# Altium schematic symbol library SG_SCH_Transistors.SchLib: 45 symbols
Pins are listed as number, name and electrical type; pins without a type are passive.

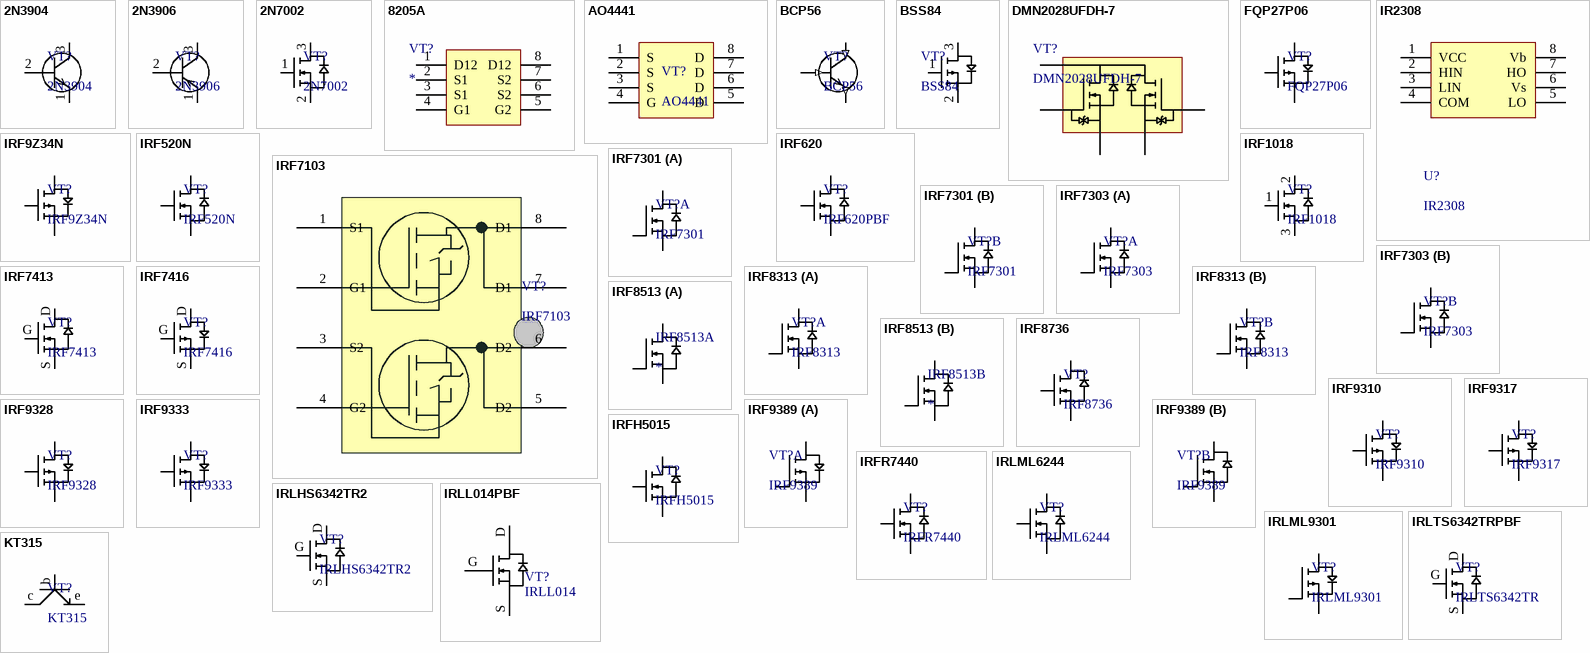
[diagram p0: symbols 2N3904 to KT315]

## 2N3904
designator VT?
NPN transistor 40-60V 200mA; Ids: *A; Rdson: *Ohm; Vds: *V; OriginalSource: AltTab; Order: *; DefaultOrder: 2N3904; LCSC Part: *; Vgs: *V; Vgs_th: *V
footprint TO-92
pins: 1 E, 2 B, 3 C

## 2N3906
designator VT?
PNP transistor 40-40V 200mA; Ids: *A; Rdson: *Ohm; Vds: *V; OriginalSource: AltTab; Order: *; DefaultOrder: 2N3906; LCSC Part: *; Vgs: *V; Vgs_th: *V
footprint TO-92
pins: 1 E, 2 B, 3 C

## 2N7002
designator VT?
2N7002ET1G; Ids: *A; Rdson: *Ohm; Vds: *V; OriginalSource: AltTab; Order: *; DefaultOrder: 2N7002ET1G; LCSC Part: *; Vgs: *V; Vgs_th: *V
footprint SOT23-3
pins: 1, 2, 3

## 8205A
designator VT?
2x n-MOS; Ids: *A; Rdson: *Ohm; Vds: *V; OriginalSource: AltTab; Order: *; DefaultOrder: *; LCSC Part: *; Vgs: *V; Vgs_th: *V
footprint SOP127P600-8N
pins: 1 D12, 2 S1, 3 S1, 4 G1, 5 G2, 6 S2, 7 S2, 8 D12

## AO4441
designator VT?
-60V P-Channel MOSFET; Order: AO4441
footprint SO-8 (Small Outline; 8 Leads; Body Width 3.9 mm; Pitch 1.27 mm)
footprint SOP-8 (SOP, 8-Leads, Body 9.50x6.62mm, Pitch 2.54mm, IPC Medium Density)
pins: 1 S, 2 S, 3 S, 4 G, 5 D, 6 D, 7 D, 8 D

## BCP56
designator VT?
NPN transistor 40-60V 80V 1A 1.5W; Order: *BCP56-16,115; OriginalSource: Flourimeter; LCSC Part: *; Ic: 1A
footprint SOT223
pins: 1 B (in), 2 C (in), 3 E (out), 4 C (in)

## BSS84
designator VT?
P-MOSFET; Order: *BSS84; Vds: *V; Ids: *A; Rdson: *Ohm; LCSC Part: *; Package: *; HelpURL: *; Vgs: *V; Vgs_th: *V
footprint SOT23-3
pins: 1, 2, 3

## DMN2028UFDH-7
designator VT?
2x n-MOS 20V 6A 0.020Ohm Common Drain; DefaultOrder: DMN2028UFDH-7*; Ids: *A; Rdson: *Ohm; Vds: *V; OriginalSource: AltTab; Order: *; LCSC Part: *; Vgs: *V; Vgs_th: *V
footprint DFN-8L_DMN2028UFDH-7 (QFN, 8-Leads, Body 3,00x3,00mm, Pitch 0,65mm, IPC High Density)
footprint DFN-8N_DMN2028UFDH-7 (QFN, 8-Leads, Body 3,00x3,00mm, Pitch 0,65mm, IPC Medium Density)
footprint DFN-8M_DMN2028UFDH-7 (QFN, 8-Leads, Body 3,00x3,00mm, Pitch 0,65mm, IPC Low Density)
pins: 1, 2, 3, 4, 5

## FQP27P06
designator VT?
p-mos 0.05ohm; Ids: *A; Rdson: *Ohm; Vds: *V; OriginalSource: AltTab; Order: *; DefaultOrder: FQP27P06; LCSC Part: *; Vgs: *V; Vgs_th: *V
footprint TO-220
pins: 1, 2, 3

## IR2308
designator U?
600V Half-bridge driver for N-MOSFET; Order: *IR2308STRPBF
footprint SO-8 (Small Outline; 8 Leads; Body Width 3.9 mm; Pitch 1.27 mm)
pins: 1 VCC, 2 HIN, 3 LIN, 4 COM, 5 LO, 6 Vs, 7 HO, 8 Vb

## IRF9Z34N
designator VT?
Ids: *A; Rdson: *Ohm; Vds: *V; OriginalSource: AltTab; Order: *; DefaultOrder: IRF9Z34N; LCSC Part: *; Vgs: *V; Vgs_th: *V
footprint TO-220
pins: 1, 2, 3

## IRF520N
designator VT?
Ids: *A; Rdson: *Ohm; Vds: *V; OriginalSource: AltTab; Order: *; DefaultOrder: IRF520N; LCSC Part: *; Vgs: *V; Vgs_th: *V
footprint TO-220; pin to pad D>2 G>1 S>3
pins: D, G, S 3

## IRF620
designator VT?, comment IRF620PBF
IRF620PBF (VISH/IR); Ids: *A; Rdson: *Ohm; Vds: *V; OriginalSource: AltTab; DefaultOrder: *; Order: *; LCSC Part: *; Vgs: *V; Vgs_th: *V
footprint TO-220
pins: 1, 2, 3

## IRF1018
designator VT?
DefaultOrder: IRF1018ESPBF; Ids: *A; Rdson: *Ohm; Vds: *V; OriginalSource: AltTab; Order: *; LCSC Part: *; Vgs: *V; Vgs_th: *V
footprint TO-252
pins: 1, 2, 3

## IRF7103
designator VT?
Dual Power MOSFET N-chanel (2.3 A, 50 V); Ids: *A; Rdson: *Ohm; Vds: *V; OriginalSource: AltTab; DefaultOrder: *; LCSC Part: *; Vgs: *V; Vgs_th: *V
footprint SO-8 (Small Outline; 8 Leads; Body Width 3.9 mm; Pitch 1.27 mm)
pins: 1 S1, 2 G1, 3 S2, 4 G2, 5 D2, 6 D2, 7 D1, 8 D1

## IRF7301
designator VT?
2x n-MOS 20V 5.2A 0.05Ohm max Vgs = 12V; Ids: *A; Rdson: *Ohm; Vds: *V; OriginalSource: AltTab; Order: *; DefaultOrder: *; LCSC Part: *; Vgs: *V; Vgs_th: *V
footprint SO-8 (Small Outline; 8 Leads; Body Width 3.9 mm; Pitch 1.27 mm)
part A pins: 1 3, 2, 7, 8
part B pins: 3, 4, 5, 6

## IRF7303
designator VT?
2x n-MOS 30V 3.9-5.3A 0.05Ohm max Vgs = 20V; Ids: *A; Rdson: *Ohm; Vds: *V; OriginalSource: AltTab; Order: *; DefaultOrder: *; LCSC Part: *; Vgs: *V; Vgs_th: *V
footprint SO-8 (Small Outline; 8 Leads; Body Width 3.9 mm; Pitch 1.27 mm)
part A pins: 3 Source2, 4 Gate2, 5 Drain2, 6 Drain2
part B pins: 1 Source1, 2 Gate1, 7 Drain1, 8 Drain1

## IRF7413
designator VT?
N-MOSFET; Ids: *A; Rdson: *Ohm; Vds: *V; OriginalSource: AltTab; Order: *; HelpURL: C:\datasheet\IRF7413.pdf; DefaultOrder: *; LCSC Part: *; Vgs: *V; Vgs_th: *V
footprint SO-8 (Small Outline; 8 Leads; Body Width 3.9 mm; Pitch 1.27 mm); pin to pad D>5+6+7+8 G>4 S>1+2+3
pins: D, G, S

## IRF7416
designator VT?
P-MOS 30V 10A 0.02Ohm Vth=2.04V; Vgs: *V; Vgs_th: 2.04V; OriginalSource: AltTab; Order: *; DefaultOrder: IRF7416; LCSC Part: *; Ids: 10A; Rdson: 0.02Ohm; Vds: 30V
footprint SO-8 (Small Outline; 8 Leads; Body Width 3.9 mm; Pitch 1.27 mm); pin to pad D>5+6+7+8 G>4 S>1+2+3
pins: D, G, S

## IRF8313
designator VT?
2x n-MOS 30V 9A 0.015Ohm; Ids: *A; Rdson: *Ohm; Vds: *V; OriginalSource: AltTab; Order: *; DefaultOrder: IRF8313; LCSC Part: *; Vgs: *V; Vgs_th: *V
footprint SO-8 (Small Outline; 8 Leads; Body Width 3.9 mm; Pitch 1.27 mm)
part A pins: 1, 2, 7, 8
part B pins: 3, 4, 5, 6

## IRF8513
designator IRF8513
2x n-MOS 30V 8A 0.015Ohm; DefaultOrder: IRF8513; Ids: *A; Rdson: *Ohm; Vds: *V; OriginalSource: AltTab; Order: *; LCSC Part: *; Vgs: *V; Vgs_th: *V
footprint SO-8 (Small Outline; 8 Leads; Body Width 3.9 mm; Pitch 1.27 mm)
part A pins: 1, 5, 6, 7, 8
part B pins: 2, 3, 4, 5, 6, 7

## IRF8736
designator VT?
N-MOSFET 30V 17A 4.8mOhm; Ids: *A; Rdson: *Ohm; Vds: *V; OriginalSource: AltTab; Order: *; HelpURL: C:\datasheet\IRF8736.pdf; DefaultOrder: *; LCSC Part: *; Vgs: *V; Vgs_th: *V
footprint SO-8 (Small Outline; 8 Leads; Body Width 3.9 mm; Pitch 1.27 mm)
pins: 1, 2, 3, 4, 5, 6, 7, 8

## IRF9310
designator VT?
PMOS 20A 30V 4.6mOhm 2.4Vgth; Ids: *A; Rdson: *Ohm; Vds: *V; OriginalSource: AltTab; Order: *; HelpURL: c:\datasheet\MOSFET\IRF9310.pdf; DefaultOrder: *; LCSC Part: *; Vgs: *V; Vgs_th: *V
footprint so-8 (Small Outline; 8 Leads; Body Width 3.9 mm; Pitch 1.27 mm); pin to pad 1>1+2+3
pins: 1, 2, 3, 4, 5, 6, 7, 8

## IRF9317
designator VT?
P-MOSFET; DefaultOrder: IRF9328PbF; Ids: *A; Rdson: *Ohm; Vds: *V; OriginalSource: AltTab; Order: *; LCSC Part: *; Vgs: *V; Vgs_th: *V
footprint so-8 (Small Outline; 8 Leads; Body Width 3.9 mm; Pitch 1.27 mm); pin to pad 1>1+2+3
pins: 1, 2, 3, 4, 5, 6, 7, 8

## IRF9328
designator VT?
P-MOSFET 30V 12mO 12A; DefaultOrder: IRF9328PbF; Ids: *A; Rdson: *Ohm; Vds: *V; OriginalSource: AltTab; Order: *; LCSC Part: *; Vgs: *V; Vgs_th: *V
footprint so-8 (Small Outline; 8 Leads; Body Width 3.9 mm; Pitch 1.27 mm); pin to pad 1>1+2+3
pins: 1, 2, 3, 4, 5, 6, 7, 8

## IRF9333
designator VT?
P-MOSFET; DefaultOrder: IRF9333PBF; Ids: *A; Rdson: *Ohm; Vds: *V; OriginalSource: AltTab; Order: *; LCSC Part: *; Vgs: *V; Vgs_th: *V
pins: 1,2,3, 4, 8,7,6,5

## IRF9389
designator VT?
1N1P MOSFET; Order: *; DefaultOrder: IRF9389
footprint SO-8 (Small Outline; 8 Leads; Body Width 3.9 mm; Pitch 1.27 mm)
part A pins: 3 S2, 4 G2 (hiz), 5 D2, 6 D2
part B pins: 1 S1, 2 G1 (hiz), 7 D1, 8 D1

## IRFH5015
designator VT?
N-MOSFET 150V 56A 31mOhm; Order: *IRFH5015PbF; DefaultOrder: IRFH5015PbF; Rdson: *Ohm; Vds: *V; OriginalSource: AltTab; HelpURL: https://doc.platan.ru/pdf/datasheets/ir/IRFH5015TRPBF.pdf; LCSC Part: *; Ids: 56A; Vgs: *V; Vgs_th: *V
footprint PQFN 5x6mm FET (Footprint not found)
pins: 1, 2, 3, 4, 5, 6, 7, 8

## IRFR7440
designator VT?
nMOS 40V/90А/2mOhm; DefaultOrder: IRFR7440PBF; Ids: *A; Rdson: *Ohm; Vds: *V; OriginalSource: AltTab; Order: *; LCSC Part: *; Vgs: *V; Vgs_th: *V
footprint TO-252
pins: 1, 2, 3

## IRLHS6342TR2
designator VT?
N-ch MOSFET; Ids: *A; Rdson: *Ohm; Vds: *V; OriginalSource: AltTab; Order: *; DefaultOrder: IRLHS6342TR2; LCSC Part: *; Vgs: *V; Vgs_th: *V
footprint PQFN2x2 (Footprint not found)
pins: D, G, S 3

## IRLL014PBF
designator VT?, comment IRLL014
IRLL014PBF; Ids: *A; Rdson: *Ohm; Vds: *V; OriginalSource: AltTab; Order: *; DefaultOrder: IRLL014PBF; LCSC Part: *; Vgs: *V; Vgs_th: *V
footprint SOT223; pin to pad D>2+4 G>1 S>3
pins: D, G, S

## IRLML6244
designator VT?
nMOS 6.3A 20V 27mOhm; Ids: *A; Rdson: *Ohm; Vds: *V; OriginalSource: AltTab; Order: *; HelpURL: c:\datasheet\MOSFET\IRLML6244.pdf; DefaultOrder: *; LCSC Part: *; Vgs: *V; Vgs_th: *V
footprint SOT23-3
pins: 1, 2, 3

## IRLML9301
designator VT?
30V 3.6A 64-103mOhm P-chanel MOSFET; Ids: *A; Rdson: *Ohm; Vds: *V; OriginalSource: AltTab; DefaultOrder: IRLML9301; Order: *; LCSC Part: *; Vgs: *V; Vgs_th: *V
footprint SOT23-3
pins: 1, 2 3, 3

## IRLTS6342TRPBF
designator VT?, comment IRLTS6342TR
N-ch MOSFET 20mOhm 8A; DefaultOrder: IRLTS6342TRPBF; Ids: *A; Rdson: *Ohm; Vds: *V; OriginalSource: AltTab; Order: *; LCSC Part: *; Vgs: *V; Vgs_th: *V
pins: D, G, S 3

## KT315
designator VT?
Ids: *A; Rdson: *Ohm; Vds: *V; OriginalSource: AltTab; Order: *; DefaultOrder: KT315; LCSC Part: *; Vgs: *V; Vgs_th: *V
footprint KT315
pins: b, c, e

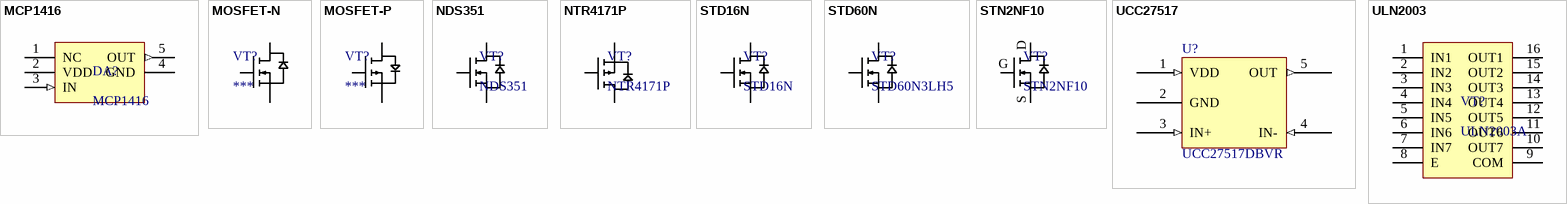
[diagram p1: symbols MCP1416 to ULN2003]

## MCP1416
designator DA?
Tiny 1.5A, High-Speed Power MOSFET Driver; Order: MCP1416T-E/OT
footprint SOT23-5
pins: 1 NC, 2 VDD (power), 3 IN (in), 4 GND (power), 5 OUT (out)

## MOSFET-N
designator VT?, comment ***
N-MOSFET; Vds: *V; Ids: *A; Rdson: *Ohm; OriginalSource: AltTab; Order: *; LCSC Part: *; Package: *; HelpURL: *; Vgs: *V; Vgs_th: *V
pins: D, G, S

## MOSFET-P
designator VT?, comment ***
P-MOSFET; Vds: *V; Ids: *A; Rdson: *Ohm; OriginalSource: AltTab; Order: *; LCSC Part: *; Package: *; HelpURL: *; Vgs: *V; Vgs_th: *V
pins: D, G, S

## NDS351
designator VT?
nМОП 30В/1,4А/160мОм; DefaultOrder: NDS351AN; Ids: *A; Rdson: *Ohm; Vds: *V; OriginalSource: AltTab; Order: *; LCSC Part: *; Vgs: *V; Vgs_th: *V
footprint SOT23-3
pins: 1, 2, 3

## NTR4171P
designator VT?
30 V, 3.5 A, 75 mOhm Single P-Channel Power MOSFET; Ids: *A; Rdson: *Ohm; Vds: *V; OriginalSource: AltTab; Order: *; DefaultOrder: NTR4171P; LCSC Part: *; Vgs: *V; Vgs_th: *V
footprint SOT23-3
pins: 1, 2, 3

## STD16N
designator VT?
nМОП 60В/16А/0.06 Ом; DefaultOrder: STD16NF06T4; Ids: *A; Rdson: *Ohm; Vds: *V; OriginalSource: AltTab; Order: *; LCSC Part: *; Vgs: *V; Vgs_th: *V
footprint TO-252
pins: 1, 2, 3

## STD60N
designator VT?, comment STD60N3LH5
N-channel MOSFET 48A, 30V, 8mOhm; Ids: *A; Rdson: *Ohm; Vds: *V; OriginalSource: AltTab; Order: *; DefaultOrder: STD60N3LH5; LCSC Part: *; Vgs: *V; Vgs_th: *V
footprint TO-252
pins: 1, 2 3, 3

## STN2NF10
designator VT?
N-ch 2.4A 0.26Ohm MOSFET; Ids: *A; Rdson: *Ohm; Vds: *V; OriginalSource: AltTab; Order: *; DefaultOrder: STN2NF10; LCSC Part: *; Vgs: *V; Vgs_th: *V
footprint SOT223
pins: D, G, S 3

## UCC27517
designator U?, comment UCC27517DBVR
Order: *UCC27517DBVR
footprint SOT23-5
pins: 1 VDD (in), 2 GND (power), 3 IN+ (in), 4 IN- (in), 5 OUT (out)

## ULN2003
designator VT?, comment ULN2003A
7 darlington pairs; DefaultOrder: ULN2003AD; Ids: *A; Rdson: *Ohm; Vds: *V; OriginalSource: AltTab; Order: *; LCSC Part: *; Vgs: *V; Vgs_th: *V
footprint SO-16
footprint DIP16 (DIP; 16 Leads; Row Spacing 7.62 mm; Pitch 2.54 mm)
pins: 1 IN1, 2 IN2, 3 IN3, 4 IN4, 5 IN5, 6 IN6, 7 IN7, 8 E, 9 COM, 10 OUT7, 11 OUT6, 12 OUT5, 13 OUT4, 14 OUT3, 15 OUT2, 16 OUT1